# EAGLE library part 87831-1420 (library 87831-1420)
Header 2.00mm Milli-Grid, vert, TH, 14w Molex MILLI-GRID Series, Series Number 87831, 2mm Pitch 14 Way 2 Row Straight PCB Header, Solder Termination, 2A Source: Datasheet <https://datasheet.datasheetarchive.com/originals/distributors/Datasheets_SAMA/a2545eee6619240fbcc1bdd75e599df7.pdf>
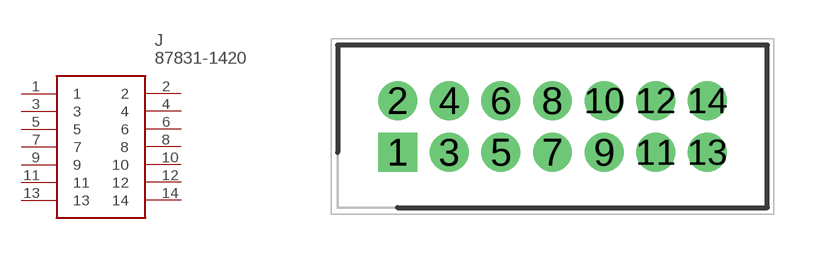
[diagram p0: symbol with the pads of SHDR14W55P200_2X7_1665X630X640; footprint SHDR14W55P200_2X7_1665X630X640]

Designator prefix J

## 87831-1420 (Description: Header 2.00mm Milli-Grid, vert, TH, 14w Molex MILLI-GRID Series, Series Number 87831, 2mm Pitch 14 Way 2 Row Straight PCB Header, Solder Termination, 2A; Height: 6.4mm; Manufacturer_Name: Molex; Manufacturer_Part_Number: 87831-1420; Mouser_Part_Number: 538-87831-1420; Mouser_Price-Stock: https://www.mouser.co.uk/ProductDetail/Molex/87831-1420?qs=QtQX4uD3c2VDCL534TqpVg%3D%3D)  [SHDR14W55P200_2X7_1665X630X640]
1  1
2  2
3  3
4  4
5  5
6  6
7  7
8  8
9  9
10  10
11  11
12  12
13  13
14  14

## Footprint SHDR14W55P200_2X7_1665X630X640 (pad centres in mm)
87831-1420
drill 1 pad 1.5 square: 1 0,0
drill 1 pad 1.5: 2 0,2; 3 2,0; 4 2,2; 5 4,0; 6 4,2; 7 6,0; 8 6,2; 9 8,0; 10 8,2; 11 10,0; 12 10,2; 13 12,0; 14 12,2